# EAGLE library part OP270 (library opamps)
OP270: Dual low noise high precision opamp (Analog Devices) ±15V, ±!mA, 60nA bias 250µV offset, 5MHz UGF, 6.5nV/rt(Hz) noise
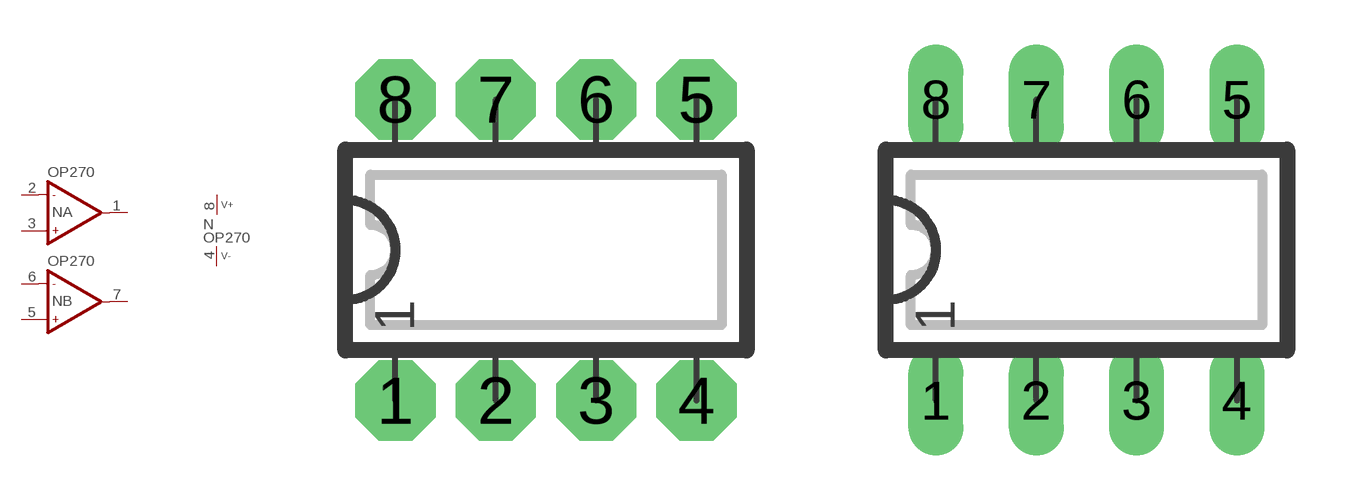
[diagram p104: symbol with the pads of DIP08N; footprints DIP08N, DIP08L]

Designator prefix N; gates A=OP-NAME B=OP-NAME P=V+-

## OP270N  [DIP08N]
1  A:OUT  out
2  A:IN-  in
3  A:IN+  in
4  P:V-  pwr
5  B:IN+  in
6  B:IN-  in
7  B:OUT  out
8  P:V+  pwr

## OP270  [DIP08L]
Pads as for DIP08N

## OP270L  [DIP08L]
Pads as for DIP08N

## OP270R  [DIP08R]
Pads as for DIP08N

## OP270S  [SO16W]
1  A:IN-  in
2  A:OUT  out
4  P:V-  pwr
6  B:IN+  in
7  B:IN-  in
10  B:OUT  out
13  P:V+  pwr
16  A:IN+  in

## Footprint DIP08N (pad centres in mm)
DIP-8 Standard IC package, 8 pins
drill 0.813 pad 2.032 octagon: 1 -3.81,-3.81; 2 -1.27,-3.81; 3 1.27,-3.81; 4 3.81,-3.81; 5 3.81,3.81; 6 1.27,3.81; 7 -1.27,3.81; 8 -3.81,3.81

## Footprint DIP08L (pad centres in mm)
DIP-8, long pads Standard IC package, 8 pins
drill 0.813 pad 1.397 long: 1 -3.81,-3.81; 2 -1.27,-3.81; 3 1.27,-3.81; 4 3.81,-3.81; 5 3.81,3.81; 6 1.27,3.81; 7 -1.27,3.81; 8 -3.81,3.81

## Footprint DIP08R (pad centres in mm)
DIP-8, reduced pads Standard IC package, 8 pins
drill 0.813 pad 1.397 square: 1 -3.81,-3.81; 2 -1.27,-3.81; 3 1.27,-3.81; 4 3.81,-3.81; 5 3.81,3.81; 6 1.27,3.81; 7 -1.27,3.81; 8 -3.81,3.81

## Footprint SO16W (pad centres in mm)
SO-16 wide, SMD SOIC IC package (0.3" wide), 16 pins
smd 0.635 x 1.778: 1 -4.445,-4.763; 2 -3.175,-4.763; 3 -1.905,-4.763; 4 -0.635,-4.763; 5 0.635,-4.763; 6 1.905,-4.763; 7 3.175,-4.763; 8 4.445,-4.763; 9 4.445,4.763; 10 3.175,4.763; 11 1.905,4.763; 12 0.635,4.763; 13 -0.635,4.763; 14 -1.905,4.763; 15 -3.175,4.763; 16 -4.445,4.763